# EAGLE library part AWHW16 (library J-IDC2.54mm)
16POS 2.52MM pitch Boxheader for IDC socktest http://assmann.us/
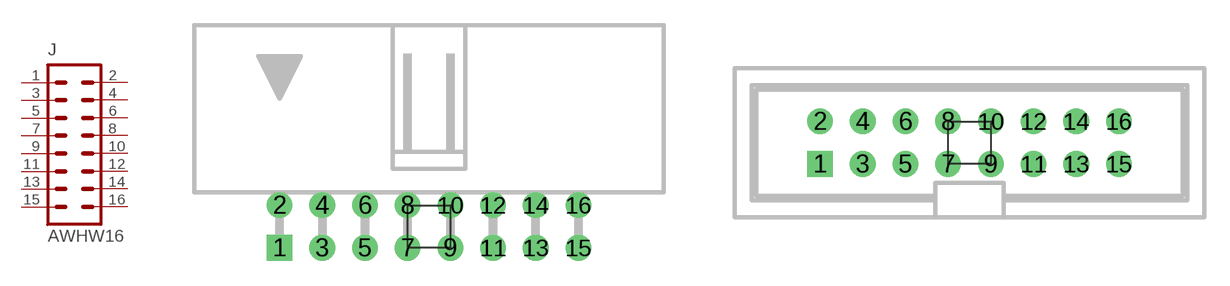
[diagram p3: symbol with the pads of 16A-0202-T-R; footprints 16A-0202-T-R, 16G-0202-T-R]

Designator prefix J

## AWHW16A-0202-T-R  [16A-0202-T-R]
1  1  pas
2  2  pas
3  3  pas
4  4  pas
5  5  pas
6  6  pas
7  7  pas
8  8  pas
9  9  pas
10  10  pas
11  11  pas
12  12  pas
13  13  pas
14  14  pas
15  15  pas
16  16  pas

## AWHW16G-0202-T-R  [16G-0202-T-R]
Pads as for 16A-0202-T-R

## AWHW16-G-SMD-R  [16-G-SMD-R]
Pads as for 16A-0202-T-R

## Footprint 16A-0202-T-R (pad centres in mm)
2.54MM Pitch, 1.016MM drill, diameter is auto (uses DRC restring) AWHW16A-0202-T-R
drill 1.016 square: 1 -8.89,-1.27
drill 1.016: 2 -8.89,1.27; 3 -6.35,-1.27; 4 -6.35,1.27; 5 -3.81,-1.27; 6 -3.81,1.27; 7 -1.27,-1.27; 8 -1.27,1.27; 9 1.27,-1.27; 10 1.27,1.27; 11 3.81,-1.27; 12 3.81,1.27; 13 6.35,-1.27; 14 6.35,1.27; 15 8.89,-1.27; 16 8.89,1.27

## Footprint 16G-0202-T-R (pad centres in mm)
2.54MM Pitch, 1.016MM drill, diameter is auto (uses DRC restring) AWHW16G-0202-T-R
drill 1.016 square: 1 -8.89,-1.27
drill 1.016: 2 -8.89,1.27; 3 -6.35,-1.27; 4 -6.35,1.27; 5 -3.81,-1.27; 6 -3.81,1.27; 7 -1.27,-1.27; 8 -1.27,1.27; 9 1.27,-1.27; 10 1.27,1.27; 11 3.81,-1.27; 12 3.81,1.27; 13 6.35,-1.27; 14 6.35,1.27; 15 8.89,-1.27; 16 8.89,1.27

## Footprint 16-G-SMD-R (pad centres in mm)
2.54MM Pitch, 3.9MM X1.02MM PAD 50% round, +/- 2.94MM offset AWHW16-G-SMD-R
smd 1.02 x 3.9: 1 -8.89,-2.94; 2 -8.89,2.94; 3 -6.35,-2.94; 4 -6.35,2.94; 5 -3.81,-2.94; 6 -3.81,2.94; 7 -1.27,-2.94; 8 -1.27,2.94; 9 1.27,-2.94; 10 1.27,2.94; 11 3.81,-2.94; 12 3.81,2.94; 13 6.35,-2.94; 14 6.35,2.94; 15 8.89,-2.94; 16 8.89,2.94